# EAGLE library part 662006231822 (library Wurth_Elektronik_Electromechanic_Wire_to_Board_Connectors_rev15c)
WR-MPC3 3.00mm Male Dual Row SMT Vertical Header with SMT Fitting Nail, 6 Pins=>Code : Con_WTB_MPC3_2_PCB_SMT_662006231822 <http://katalog.we-online.de/media/thumbs2/eican/thb_Con_WTB_MPC3_2_PCB_SMT_6620xx231822_pf2.jpg> Details see: http://katalog.we-online.de/en/em/662_0xx_231_822 Created 2014-06-06, Karrer Zheng 2014 (C) Würth Elektronik
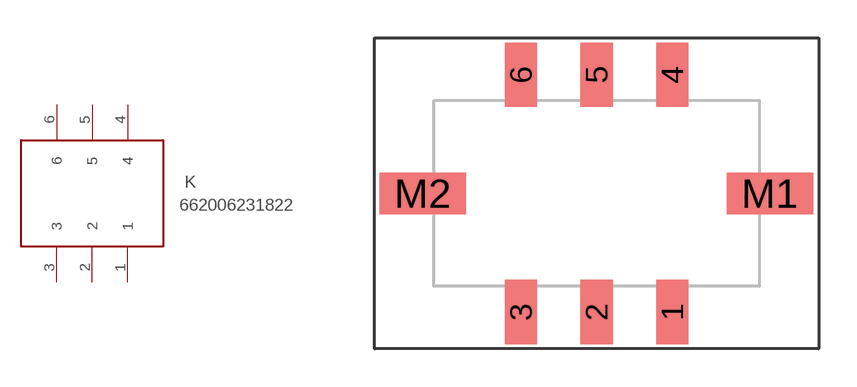
[diagram p331: symbol with the pads of 662006231822; footprint 662006231822]

Designator prefix K

## 662006231822  [662006231822]
1  1
2  2
3  3
4  4
5  5
6  6

## Footprint 662006231822 (pad centres in mm)
WR-MPC3 3.00mm Male Dual Row SMT Vertical Header with SMT Fitting Nail, 6 Pins
smd 1.27 x 2.54: 1 0,-4.7; 2 -3,-4.7; 3 -6,-4.7; 4 0,4.7; 5 -3,4.7; 6 -6,4.7
smd 3.43 x 1.65: M1 3.865,0; M2 -9.895,0